# EAGLE library part 3-1419108-5 (library Relays)
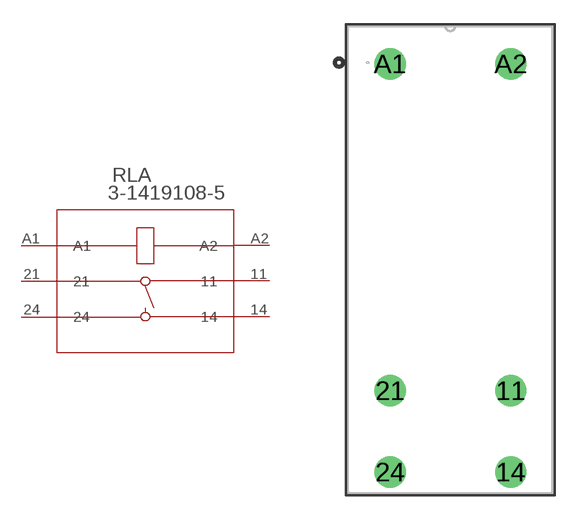
[diagram p72: symbol with the pads of RELAY8_RT1-16A5_1FA; footprint RELAY8_RT1-16A5_1FA]

Designator prefix RLA

## 3-1419108-5 (BUILT_BY: EMA_UL_Team; CATEGORY: Power Relays; CONTACT_ARRANGEMENT: 1 Form A (NO); COPYRIGHT: Copyright (C) 2016 Accelerated Designs. All rights reserved; DESCRIPTION: RTD34012; MANUFACTURER_PART_NUMBER: RTD34012; MAXIMUM_SWITCHING_CURRENT: -; MAXIMUM_SWITCHING_VOLTAGE: -; PART_STATUS: active; PRODUCT_TYPE: -; RELAY_TYPE: -; SERIES: SCHRACK Power PCB Relay RT1; TE_PART_NUMBER: RTD34012 (3-1419108-5); VENDOR: TE Connectivity)  [RELAY8_RT1-16A5_1FA]
11  11  pas
14  14  pas
21  21  pas
24  24  pas
A1  A1  pas
A2  A2  pas

## Footprint RELAY8_RT1-16A5_1FA (pad centres in mm)
drill 1.295 pad 1.803: 11 0,4.013; 14 0,-1.041; 21 -7.493,4.013; 24 -7.493,-1.041; A1 -7.493,24.308; A2 0,24.308